# Altium footprint library Arduino UNO.PcbLib: 28 footprints (part 1 of 2)
Each footprint in its own frame and in the unit in brackets; x right, y up, seen from the top. Pads: shape width x height; smd on the part's side, far side on the other; paste and mask are expansions set on the pad; w line width, h text height; cw(c..) or ccw(c..) is an arc to the next point about the centre after c.
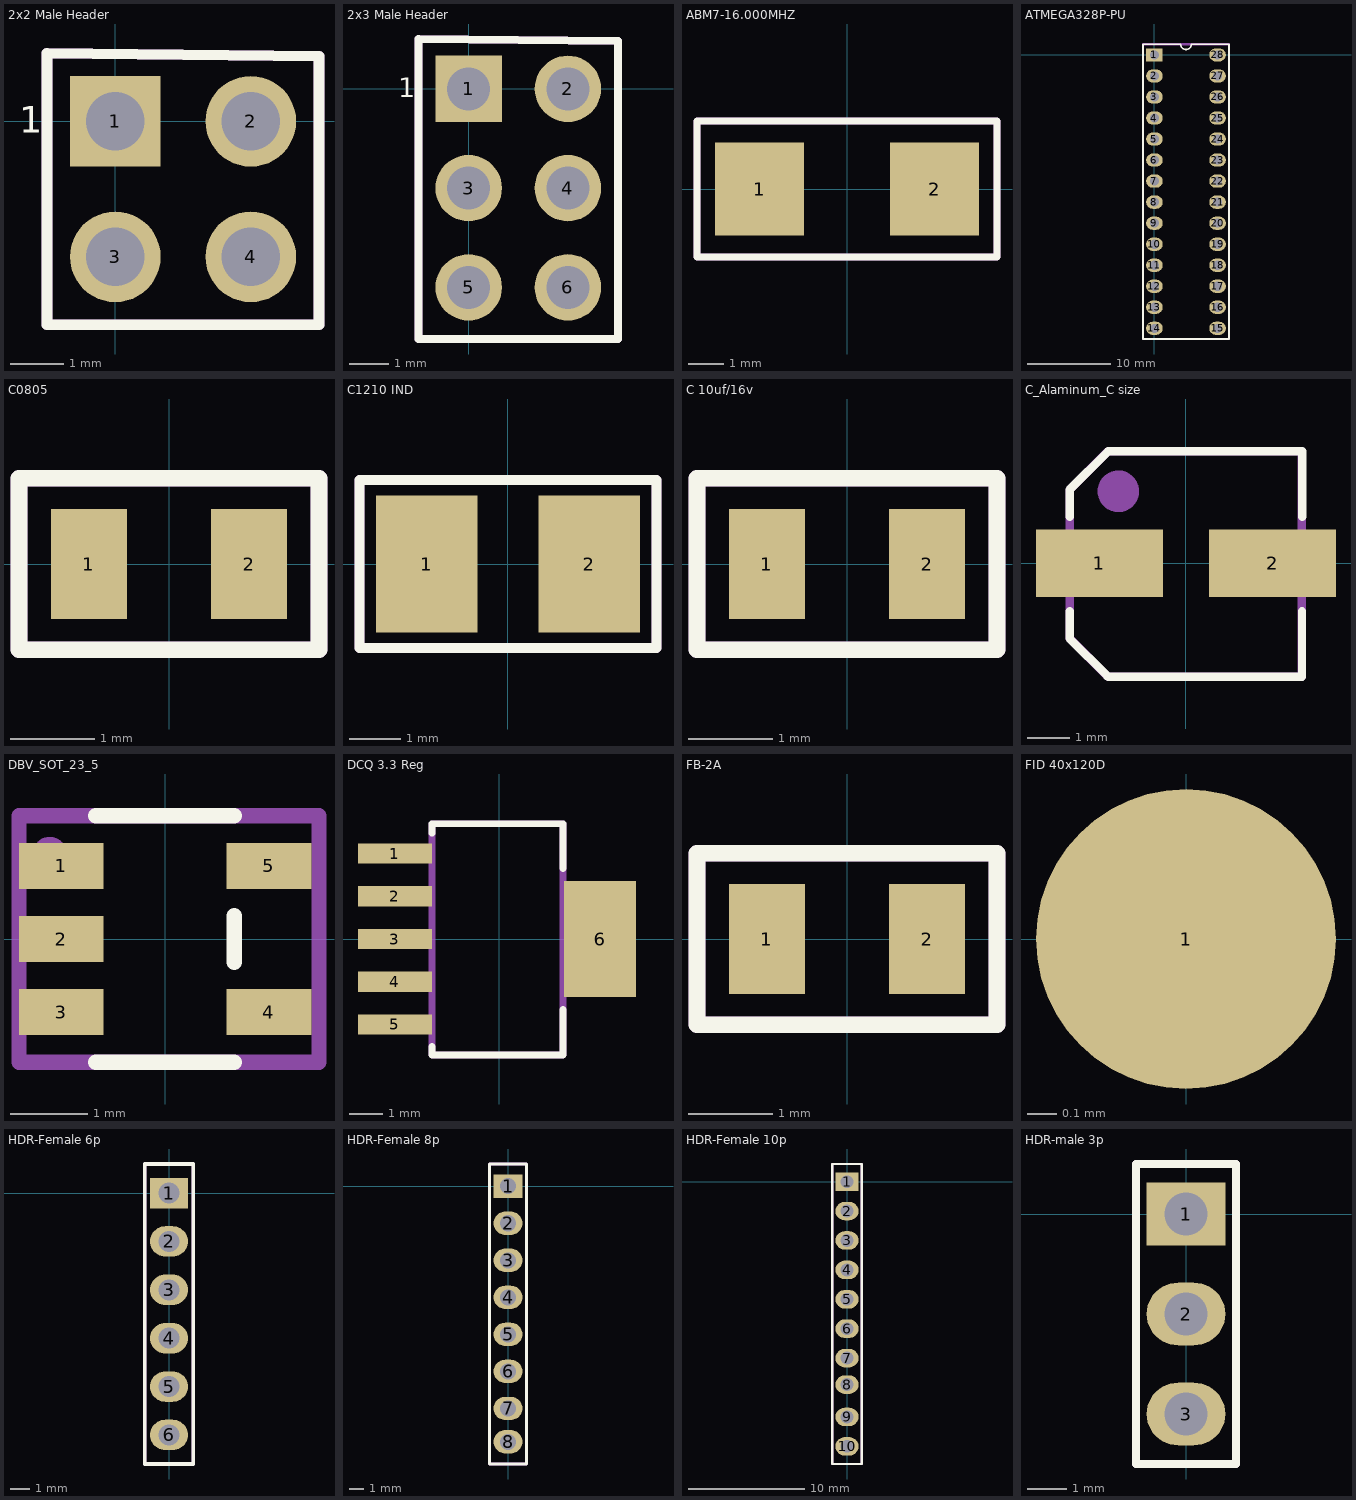
[diagram p0: the footprints below, top view; thin cyan lines are the x and y axes]

## 2x2 Male Header [mm]
pads (4):
  rect 1.7x1.7 hole 1.1: 1(0,0)
  round 1.7 hole 1.1: 2(2.54,0) 3(0,-2.54) 4(2.54,-2.54)
Top Overlay:
  lines w0.2: -1.28,-3.81 3.818,-3.81 3.818,1.22 -1.28,1.275 -1.28,-3.81
  text "1" at -1.805,-0.215 h0.5
Mechanical 29:
  circle w0.254: c-0.655,0.61 r0.035
  lines w0.2: -1.28,1.26 -1.28,-3.81 3.818,-3.81 3.818,1.22 -1.28,1.275
  text "'.Designator'" at 0.381,-1.778 h1.2
3D body "2x2 Male Pin Header.STEP": height 10.55, standoff -2.99, extent -1.19,-3.792 3.81,1.252

## 2x3 Male Header [mm]
pads (6):
  rect 1.7x1.7 hole 1.1: 1(0,0)
  round 1.7 hole 1.1: 2(2.54,0) 3(0,-2.54) 4(2.54,-2.54) 5(0,-5.08) 6(2.54,-5.08)
Top Overlay:
  lines w0.2: -1.28,-6.4 3.818,-6.4 3.818,1.22 -1.28,1.275 -1.28,-6.345 -1.28,-6.4
  text "1" at -1.805,-0.215 h0.5
Mechanical 29:
  circle w0.254: c-0.655,0.61 r0.035
  lines w0.2: -1.28,1.26 -1.28,-6.398 3.818,-6.398 3.818,1.22 -1.28,1.275
  text "'.Designator'" at 0.889,0.127 h2
3D body "User Library-2x3 TH Pitch 2_54mm.STEP": height 9.21, standoff -3.49, extent -1.27,-6.35 3.81,1.27

## ABM7-16.000MHZ [mm]
pads (2):
  rect 2.5x2.6 smd: 1(-2.45,0) 2(2.45,0)
Top Overlay:
  lines w0.2: -4.2,-1.9 4.2,-1.9 4.2,1.9 -4.2,1.9 -4.2,-1.9
Mechanical 29:
  lines w0.2: -4.2,1.9 -4.2,1.9 ; -4.2,1.9 -4.2,-1.9 4.2,-1.9 4.2,1.85 4.15,1.9 4.2,1.9 -4.2,1.9
  text "'.Designator'" at -0.635,-0.381 h1
3D body "ABM7.STEP": height 1.41, standoff 0.01, extent -2.922,-1.75 3.072,1.755

## ATMEGA328P-PU [mm]
pads (28):
  rect 2x1.6 hole 1.1: 1(0,0)
  oval 2x1.6 hole 1.1: 2(0,-2.54) 3(0,-5.08) 4(0,-7.62) 5(0,-10.16) 6(0,-12.7) 7(0,-15.24) 8(0,-17.78) 9(0,-20.32) 10(0,-22.86) 11(0,-25.4) 12(0,-27.94) 13(0,-30.48) 14(0,-33.02) 15(7.62,-33.02) 16(7.62,-30.48) 17(7.62,-27.94) 18(7.62,-25.4) 19(7.62,-22.86) 20(7.62,-20.32) 21(7.62,-17.78) 22(7.62,-15.24) 23(7.62,-12.7) 24(7.62,-10.16) 25(7.62,-7.62) 26(7.62,-5.08) 27(7.62,-2.54) 28(7.62,0)
Top Overlay:
  lines w0.2: -1.39,-34.31 -1.39,1.29 3.175,1.29 ccw(c3.81,1.29) 4.445,1.29 9.01,1.29 9.01,-34.31 -1.39,-34.31
Mechanical 29:
  lines w0.254: -1.39,-34.31 -1.39,1.29 9.01,1.29 9.01,-34.31 -1.39,-34.31
  text "'.Designator'" at 4.699,-19.05 h2
3D body: height 0.25, standoff 0, extent -8.69,-17.51 -8.69,-17.51
3D body "User Library-DIP-28P-M04.STEP": height 9.1, standoff 0.9, extent -0.06,-34.21 7.81,1.19

## C0805 [mm]
pads (2):
  rect 0.9x1.3 smd: 1(-0.95,0) 2(0.95,0)
Top Overlay:
  lines w0.2: -1.778,-1.016 1.778,-1.016 1.778,1.016 -1.778,1.016 -1.778,-1.016
Mechanical 29:
  lines w0.2: -1.778,-1.016 1.778,-1.016 1.778,1.016 -1.778,1.016 -1.778,-1.016
  text "'.Designator'" at -0.635,-0.381 h0.8
3D body "CAPC2012X95N EIA 0805.step": height 0.96, standoff 0.01, extent -1,-0.6 1,0.6

## C1210 IND [mm]
pads (2):
  rect 2x2.7 smd: 1(-1.6,0) 2(1.6,0)
Top Overlay:
  lines w0.2: -2.921,-1.651 -2.921,1.651 2.921,1.651 2.921,-1.651 -2.921,-1.651
Mechanical 29:
  lines w0.2: -2.921,-1.651 2.921,-1.651 2.921,1.651 -2.921,1.651 -2.921,-1.651
  text "'.Designator'" at -0.127,-0.254 h0.8
3D body "User Library-C1210IND.STEP": height 2.71, standoff 0.01, extent -1.6,-1.27 1.6,1.43

## C 10uf/16v [mm]
pads (2):
  rect 0.9x1.3 smd: 1(-0.95,0) 2(0.95,0)
Top Overlay:
  lines w0.2: -1.778,-1.016 1.778,-1.016 1.778,1.016 -1.778,1.016 -1.778,-1.016
Mechanical 29:
  lines w0.2: -1.778,-1.016 1.778,-1.016 1.778,1.016 -1.778,1.016 -1.778,-1.016
  text "'.Designator'" at -1.27,-0.254 h0.8
3D body "User Library-C0805-2.STEP": height 1.46, standoff 0.01, extent -0.975,-0.625 1.025,0.625

## C_Alaminum_C size [mm]
pads (2):
  rect 3x1.6 smd: 1(-2.05,0) 2(2.05,0)
Top Overlay:
  lines w0.2: -2.755,-1.14 -2.755,-1.78 -1.86,-2.675 -1.845,-2.69 -1.418,-2.69 -0.645,-2.69 2.745,-2.69 2.745,-1.14 ; -2.75,1.1 -2.75,1.74 -1.855,2.635 -1.84,2.65 -1.413,2.65 -0.64,2.65 2.75,2.65 2.75,1.1
Mechanical 29:
  circle w0.54: c-1.6,1.7 r0.222
  lines w0.2: -2.75,-1.785 -1.845,-2.69 2.74,-2.69 2.74,2.65 -1.84,2.65 -2.75,1.74 -2.75,-1.785
  text "'.Designator'" at 0,-0.381 h0.9
3D body "User Library-capacitor size C.step": height 5.41, standoff -0.01, extent -2.98,-2.67 2.92,2.63

## DBV_SOT_23_5 [mm]
pads (5):
  rect 1.1x0.6 smd: 1(-1.35,0.95) 2(-1.35,0) 3(-1.35,-0.95) 4(1.35,-0.95) 5(1.35,0.95)
Top Overlay:
  lines w0.2: -0.9,-1.6 0.9,-1.6 ; -0.9,1.6 0.9,1.6 ; 0.9,-0.3 0.9,0.3
Mechanical 29:
  circle w0.254: c-1.5,1.1 r0.1
  lines w0.2: -1.9,-1.6 2,-1.6 2,1.6 -1.9,1.6 -1.9,-1.6
  text "'.Designator'" at -1.016,-0.254 h0.6
3D body "User Library-TPS79333DBVR.step": height 1.6, standoff -0.02, extent -1.514,-1.5 1.514,1.55

## DCQ 3.3 Reg [mm]
pads (6):
  rect 2.2x0.6 smd: 1(-3.1,2.54) 2(-3.1,1.27) 3(-3.1,0) 4(-3.1,-1.27) 5(-3.1,-2.54)
  rect 2.15x3.45 smd: 6(3,0)
Top Overlay:
  lines w0.2: -2,-3.2 -2,-3.45 1.9,-3.45 1.9,-2.1 ; -2,3.15 -2,3.425 1.9,3.425 1.9,2.1
Mechanical 29:
  lines w0.2: -2,-3.45 1.9,-3.45 1.9,2.075 1.9,3.425 -2,3.425 -2,3.15 -2,-3.175 -2,-3.45
  text "'.Designator'" at -0.381,0.762 h0.9
3D body "User Library-TPS73701DCQ.step": height 1.8, standoff 0, extent -3.73,-3.3 3.53,3.25

## FB-2A [mm]
pads (2):
  rect 0.9x1.3 smd: 1(-0.95,0) 2(0.95,0)
Top Overlay:
  lines w0.2: -1.778,-1.016 1.778,-1.016 1.778,1.016 -1.778,1.016 -1.778,-1.016
Mechanical 29:
  lines w0.2: -1.778,-1.016 1.778,-1.016 1.778,1.016 -1.778,1.016 -1.778,-1.016
  text "'.Designator'" at -0.508,-0.254 h0.6
3D body "CAPC2012X95N EIA 0805.step": height 0.96, standoff 0.01, extent -1,-0.6 1,0.6

## FID 40x120D [mil]
pads (1):
  round 40 smd paste-40 mask+40: 1(0,0)

## HDR-Female 6p [mm]
height 1
pads (6):
  rect 2x1.6 hole 1.1: 1(0,0)
  oval 2x1.6 hole 1.1: 2(0,-2.54) 3(0,-5.08) 4(0,-7.62) 5(0,-10.16) 6(0,-12.7)
Top Overlay:
  lines w0.2: -1.27,-14.224 1.27,-14.224 1.27,1.524 -1.27,1.524 -1.27,-14.224
Mechanical 29:
  lines w0.2: -1.27,-14.224 -1.27,1.524 1.27,1.524 1.27,-14.224 -1.27,-14.224
  lines w0.6: 0.049,0 ccw(c-0.02,0) 0.049,0
  text "'.Designator'" at -0.508,-6.858 h1.5
3D body "m20-7820646_asm.stp": height 8.51, standoff -2.99, extent -1.23,-14.17 1.27,1.47

## HDR-Female 8p [mm]
height 1
pads (8):
  rect 2x1.6 hole 1.1: 1(0,0)
  oval 2x1.6 hole 1.1: 2(0,-2.54) 3(0,-5.08) 4(0,-7.62) 5(0,-10.16) 6(0,-12.7) 7(0,-15.24) 8(0,-17.526)
Top Overlay:
  lines w0.2: -1.27,-19.05 -1.27,1.524 1.27,1.524 1.27,-19.05 -1.27,-19.05
Mechanical 29:
  lines w0.2: -1.27,-19.05 1.27,-19.05 1.27,1.524 -1.27,1.524 -1.27,-19.05
  lines w0.6: 0.049,0 ccw(c-0.02,0) 0.049,0
  text "'.Designator'" at -0.635,-8.509 h1.5
3D body "m20-7820842_asm.stp": height 8.51, standoff -2.99, extent -1.25,-19.15 1.25,1.57

## HDR-Female 10p [mm] "s"
height 1
pads (10):
  rect 2x1.6 hole 1.1: 1(0,0)
  oval 2x1.6 hole 1.1: 2(0,-2.54) 3(0,-5.08) 4(0,-7.62) 5(0,-10.16) 6(0,-12.7) 7(0,-15.24) 8(0,-17.526) 9(0,-20.32) 10(0,-22.86)
Top Overlay:
  lines w0.2: -1.27,-24.384 -1.27,1.524 1.27,1.524 1.27,-24.384 -1.27,-24.384
Mechanical 29:
  lines w0.2: -1.27,-24.384 1.27,-24.384 1.27,1.524 -1.27,1.524 -1.27,-24.384
  lines w0.6: 0.049,0 ccw(c-0.02,0) 0.049,0
  text "'.Designator'" at -0.508,-11.176 h1.5
3D body "m20-7821046_asm.stp": height 8.51, standoff -2.99, extent -1.27,-24.33 1.23,1.47

## HDR-male 3p [mm]
height 1
pads (3):
  rect 2x1.6 hole 1.1: 1(0,0)
  oval 2x1.6 hole 1.1: 2(0,-2.54) 3(0,-5.08)
Top Overlay:
  lines w0.2: -1.27,-6.35 1.27,-6.35 1.27,1.27 -1.27,1.27 -1.27,-6.35
Mechanical 29:
  lines w0.2: -1.27,-6.35 -1.27,1.27 1.27,1.27 1.27,-6.35 -1.27,-6.35
  lines w0.6: 0.049,0 ccw(c-0.02,0) 0.049,0
  text "'.Designator'" at -0.762,-1.143 h1.5
3D body "HDR_1x3_White.stp": height 8.19, standoff -3.31, extent -1.205,-6.15 1.205,1.07